# Altium integrated library Analog Devices Switches and Multiplexers Multiplexers (Muxes).IntLib: 481 symbols (part 4 of 23)
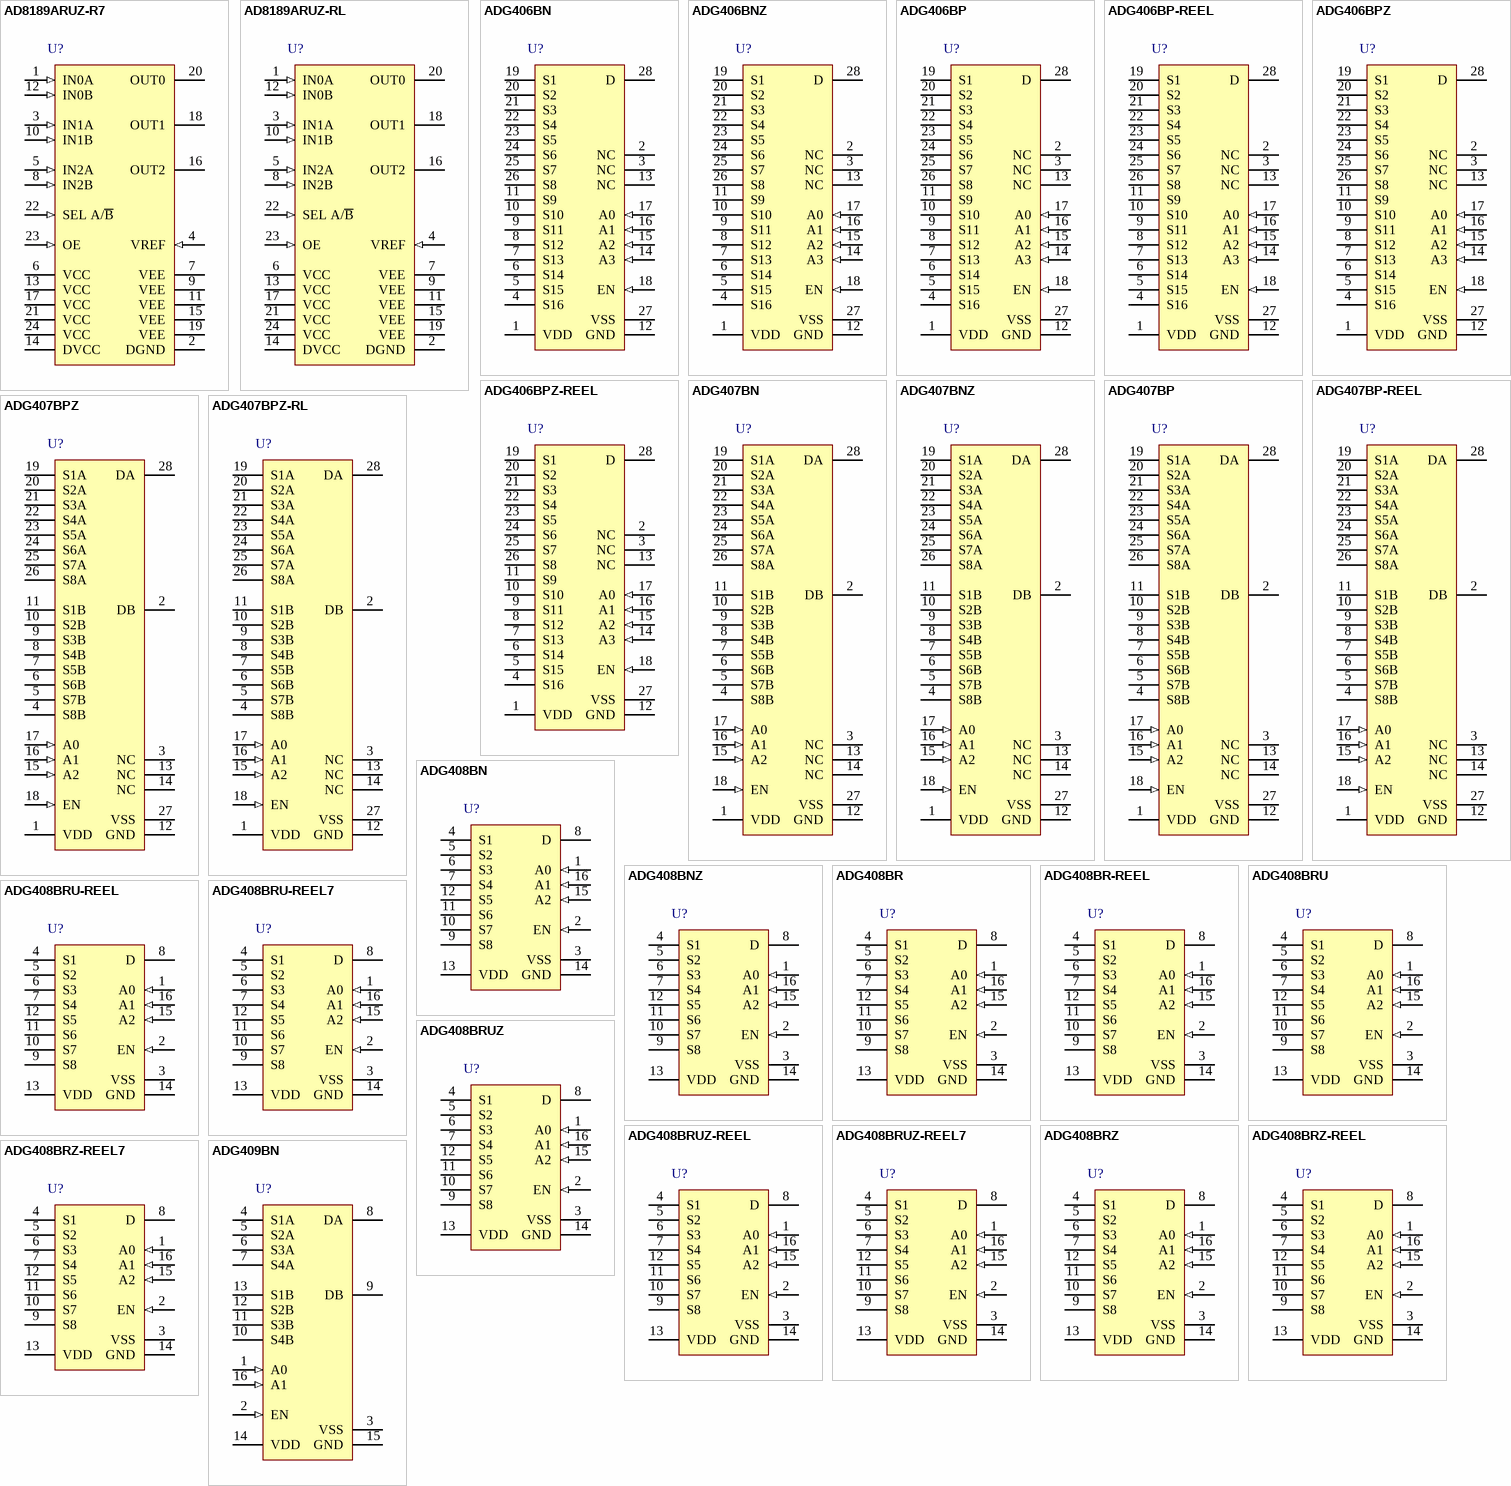
[diagram p20: symbols AD8189ARUZ-R7 to ADG409BN]

## ADG408BRU
designator U?
LC2MOS 8-Channel High Performance Analog Multiplexer, 40 Ohm / 90 Ohm Ron, 16-pin SOP (RU-16), Tube; Manufacturer: Analog Devices; PartNumber: ADG408BRU; Max Analog Signal Range: Vss to Vdd; Ron (ohms): 40; t transition (s): 120n; DatasheetVersion: Rev. C; PackageVersion: Nov-02; PackageReference: RU-16; PackageDescription: 16-Pin Thin Shrink Small Outline Package, Body 5 x 4.4 mm, Pitch 0.65 mm; Supplier 1: Digi-Key; Supplier Part Number 1: ADG408BRU-ND; Supplier 2: Mouser; Supplier Part Number 2: 584-ADG408BRU; Packing: Tube; Mounting Technology: Surface Mount; Code_JEDEC: MO-153AB; ComponentLink1Description: Manufacturer URL; ComponentLink1URL: http://www.analog.com/en/index.html; ComponentLink2Description: Datasheet; ComponentLink2URL: http://www.analog.com/static/imported-files/data_sheets/ADG408_409.pdf; ComponentLink3Description: Package Specification; ComponentLink3URL: http:/www.analog.com/static/imported-files/packages/36244347913743854010197452789RU16.pdf
footprint ADI-RU-16_N (SOP, 16-Leads, Body 5x4.4mm, Pitch 0.65mm, IPC Medium Density)
footprint ADI-RU-16_L (SOP, 16-Leads, Body 5x4.4mm, Pitch 0.65mm, IPC High Density)
footprint ADI-RU-16_M (SOP, 16-Leads, Body 5x4.4mm, Pitch 0.65mm, IPC Low Density)
pins: 1 A0 (in) "Logic Control Input.", 2 EN (in) "Active High Digital Input. When low, the device is disabled and all switches are off. When high, Ax logic inputs determine on switches.", 3 VSS (power) "Most Negative Power Supply Potential in Dual Supplies. In single-supply applications, it can be connected to ground.", 4 S1 "Source Terminal 1. Can be an input or  an output.", 5 S2 "Source Terminal 2. Can be an input or an output.", 6 S3 "Source Terminal 3. Can be an input or an output.", 7 S4 "Source Terminal 4. Can be an input or an output.", 8 D "Drain Terminal. Can be an input or an output.", 9 S8 "Source Terminal 8. Can be an input or an output.", 10 S7 "Source Terminal 7. Can be an input or an output.", 11 S6 "Source Terminal 6. Can be an input or an output.", 12 S5 "Source Terminal 5. Can be an input or an output.", 13 VDD (power) "Most Positive Power Supply Potential.", 14 GND (power) "Ground (0 V) Reference.", 15 A2 (in) "Logic Control Input.", 16 A1 (in) "Logic Control Input."

## ADG408BRU-REEL
designator U?
LC2MOS 8-Channel High Performance Analog Multiplexer, 40 Ohm / 90 Ohm Ron, 16-pin SOP (RU-16), Reel; Manufacturer: Analog Devices; PartNumber: ADG408BRU-REEL; Max Analog Signal Range: Vss to Vdd; Ron (ohms): 40; t transition (s): 120n; DatasheetVersion: Rev. C; PackageVersion: Nov-02; PackageReference: RU-16; PackageDescription: 16-Pin Thin Shrink Small Outline Package, Body 5 x 4.4 mm, Pitch 0.65 mm; Supplier 1: Digi-Key; Supplier Part Number 1: ADG408BRU-REEL-ND; Supplier 2: Newark; Supplier Part Number 2: 09B7011; Supplier 3: Mouser; Supplier Part Number 3: 584-ADG408BRU-R; Packing: Reel; Mounting Technology: Surface Mount; Code_JEDEC: MO-153AB; ComponentLink1Description: Manufacturer URL; ComponentLink1URL: http://www.analog.com/en/index.html; ComponentLink2Description: Datasheet; ComponentLink2URL: http://www.analog.com/static/imported-files/data_sheets/ADG408_409.pdf; ComponentLink3Description: Package Specification; ComponentLink3URL: http:/www.analog.com/static/imported-files/packages/36244347913743854010197452789RU16.pdf
footprint ADI-RU-16_N (SOP, 16-Leads, Body 5x4.4mm, Pitch 0.65mm, IPC Medium Density)
footprint ADI-RU-16_L (SOP, 16-Leads, Body 5x4.4mm, Pitch 0.65mm, IPC High Density)
footprint ADI-RU-16_M (SOP, 16-Leads, Body 5x4.4mm, Pitch 0.65mm, IPC Low Density)
pins: 1 A0 (in) "Logic Control Input.", 2 EN (in) "Active High Digital Input. When low, the device is disabled and all switches are off. When high, Ax logic inputs determine on switches.", 3 VSS (power) "Most Negative Power Supply Potential in Dual Supplies. In single-supply applications, it can be connected to ground.", 4 S1 "Source Terminal 1. Can be an input or  an output.", 5 S2 "Source Terminal 2. Can be an input or an output.", 6 S3 "Source Terminal 3. Can be an input or an output.", 7 S4 "Source Terminal 4. Can be an input or an output.", 8 D "Drain Terminal. Can be an input or an output.", 9 S8 "Source Terminal 8. Can be an input or an output.", 10 S7 "Source Terminal 7. Can be an input or an output.", 11 S6 "Source Terminal 6. Can be an input or an output.", 12 S5 "Source Terminal 5. Can be an input or an output.", 13 VDD (power) "Most Positive Power Supply Potential.", 14 GND (power) "Ground (0 V) Reference.", 15 A2 (in) "Logic Control Input.", 16 A1 (in) "Logic Control Input."

## ADG408BRU-REEL7
designator U?
LC2MOS 8-Channel High Performance Analog Multiplexer, 40 Ohm / 90 Ohm Ron, 16-pin SOP (RU-16), Reel; Manufacturer: Analog Devices; PartNumber: ADG408BRU-REEL7; Max Analog Signal Range: Vss to Vdd; Ron (ohms): 40; t transition (s): 120n; DatasheetVersion: Rev. C; PackageVersion: Nov-02; PackageReference: RU-16; PackageDescription: 16-Pin Thin Shrink Small Outline Package, Body 5 x 4.4 mm, Pitch 0.65 mm; Supplier 1: Digi-Key; Supplier Part Number 1: ADG408BRU-REEL7-ND; Supplier 2: Mouser; Supplier Part Number 2: 584-ADG408BRU-R7; Packing: Reel; Mounting Technology: Surface Mount; Code_JEDEC: MO-153AB; ComponentLink1Description: Manufacturer URL; ComponentLink1URL: http://www.analog.com/en/index.html; ComponentLink2Description: Datasheet; ComponentLink2URL: http://www.analog.com/static/imported-files/data_sheets/ADG408_409.pdf; ComponentLink3Description: Package Specification; ComponentLink3URL: http:/www.analog.com/static/imported-files/packages/36244347913743854010197452789RU16.pdf
footprint ADI-RU-16_N (SOP, 16-Leads, Body 5x4.4mm, Pitch 0.65mm, IPC Medium Density)
footprint ADI-RU-16_L (SOP, 16-Leads, Body 5x4.4mm, Pitch 0.65mm, IPC High Density)
footprint ADI-RU-16_M (SOP, 16-Leads, Body 5x4.4mm, Pitch 0.65mm, IPC Low Density)
pins: 1 A0 (in) "Logic Control Input.", 2 EN (in) "Active High Digital Input. When low, the device is disabled and all switches are off. When high, Ax logic inputs determine on switches.", 3 VSS (power) "Most Negative Power Supply Potential in Dual Supplies. In single-supply applications, it can be connected to ground.", 4 S1 "Source Terminal 1. Can be an input or  an output.", 5 S2 "Source Terminal 2. Can be an input or an output.", 6 S3 "Source Terminal 3. Can be an input or an output.", 7 S4 "Source Terminal 4. Can be an input or an output.", 8 D "Drain Terminal. Can be an input or an output.", 9 S8 "Source Terminal 8. Can be an input or an output.", 10 S7 "Source Terminal 7. Can be an input or an output.", 11 S6 "Source Terminal 6. Can be an input or an output.", 12 S5 "Source Terminal 5. Can be an input or an output.", 13 VDD (power) "Most Positive Power Supply Potential.", 14 GND (power) "Ground (0 V) Reference.", 15 A2 (in) "Logic Control Input.", 16 A1 (in) "Logic Control Input."

## ADG408BRUZ
designator U?
LC2MOS 8-Channel High Performance Analog Multiplexer, 40 Ohm / 90 Ohm Ron, 16-pin SOP (RU-16), Tube; Manufacturer: Analog Devices; PartNumber: ADG408BRUZ; Max Analog Signal Range: Vss to Vdd; Ron (ohms): 40; t transition (s): 120n; DatasheetVersion: Rev. C; PackageVersion: Nov-02; PackageReference: RU-16; PackageDescription: 16-Pin Thin Shrink Small Outline Package, Body 5 x 4.4 mm, Pitch 0.65 mm; Supplier 1: Digi-Key; Supplier Part Number 1: ADG408BRUZ-ND; Supplier 2: Farnell; Supplier Part Number 2: 1661018; Supplier 3: Newark; Supplier Part Number 3: 19M8646; Supplier 4: Mouser; Supplier Part Number 4: 584-ADG408BRUZ; Packing: Tube; Mounting Technology: Surface Mount; Code_JEDEC: MO-153AB; ComponentLink1Description: Manufacturer URL; ComponentLink1URL: http://www.analog.com/en/index.html; ComponentLink2Description: Datasheet; ComponentLink2URL: http://www.analog.com/static/imported-files/data_sheets/ADG408_409.pdf; ComponentLink3Description: Package Specification; ComponentLink3URL: http:/www.analog.com/static/imported-files/packages/36244347913743854010197452789RU16.pdf
footprint ADI-RU-16_N (SOP, 16-Leads, Body 5x4.4mm, Pitch 0.65mm, IPC Medium Density)
footprint ADI-RU-16_L (SOP, 16-Leads, Body 5x4.4mm, Pitch 0.65mm, IPC High Density)
footprint ADI-RU-16_M (SOP, 16-Leads, Body 5x4.4mm, Pitch 0.65mm, IPC Low Density)
pins: 1 A0 (in) "Logic Control Input.", 2 EN (in) "Active High Digital Input. When low, the device is disabled and all switches are off. When high, Ax logic inputs determine on switches.", 3 VSS (power) "Most Negative Power Supply Potential in Dual Supplies. In single-supply applications, it can be connected to ground.", 4 S1 "Source Terminal 1. Can be an input or  an output.", 5 S2 "Source Terminal 2. Can be an input or an output.", 6 S3 "Source Terminal 3. Can be an input or an output.", 7 S4 "Source Terminal 4. Can be an input or an output.", 8 D "Drain Terminal. Can be an input or an output.", 9 S8 "Source Terminal 8. Can be an input or an output.", 10 S7 "Source Terminal 7. Can be an input or an output.", 11 S6 "Source Terminal 6. Can be an input or an output.", 12 S5 "Source Terminal 5. Can be an input or an output.", 13 VDD (power) "Most Positive Power Supply Potential.", 14 GND (power) "Ground (0 V) Reference.", 15 A2 (in) "Logic Control Input.", 16 A1 (in) "Logic Control Input."

## ADG408BRUZ-REEL
designator U?
LC2MOS 8-Channel High Performance Analog Multiplexer, 40 Ohm / 90 Ohm Ron, 16-pin SOP (RU-16), Reel; Manufacturer: Analog Devices; PartNumber: ADG408BRUZ-REEL; Max Analog Signal Range: Vss to Vdd; Ron (ohms): 40; t transition (s): 120n; DatasheetVersion: Rev. C; PackageVersion: Nov-02; PackageReference: RU-16; PackageDescription: 16-Pin Thin Shrink Small Outline Package, Body 5 x 4.4 mm, Pitch 0.65 mm; Supplier 1: Digi-Key; Supplier Part Number 1: ADG408BRUZ-REEL-ND; Supplier 2: Newark; Supplier Part Number 2: 59K1232; Supplier 3: Mouser; Supplier Part Number 3: 584-ADG408BRUZ-R; Packing: Reel; Mounting Technology: Surface Mount; Code_JEDEC: MO-153AB; ComponentLink1Description: Manufacturer URL; ComponentLink1URL: http://www.analog.com/en/index.html; ComponentLink2Description: Datasheet; ComponentLink2URL: http://www.analog.com/static/imported-files/data_sheets/ADG408_409.pdf; ComponentLink3Description: Package Specification; ComponentLink3URL: http:/www.analog.com/static/imported-files/packages/36244347913743854010197452789RU16.pdf
footprint ADI-RU-16_N (SOP, 16-Leads, Body 5x4.4mm, Pitch 0.65mm, IPC Medium Density)
footprint ADI-RU-16_L (SOP, 16-Leads, Body 5x4.4mm, Pitch 0.65mm, IPC High Density)
footprint ADI-RU-16_M (SOP, 16-Leads, Body 5x4.4mm, Pitch 0.65mm, IPC Low Density)
pins: 1 A0 (in) "Logic Control Input.", 2 EN (in) "Active High Digital Input. When low, the device is disabled and all switches are off. When high, Ax logic inputs determine on switches.", 3 VSS (power) "Most Negative Power Supply Potential in Dual Supplies. In single-supply applications, it can be connected to ground.", 4 S1 "Source Terminal 1. Can be an input or  an output.", 5 S2 "Source Terminal 2. Can be an input or an output.", 6 S3 "Source Terminal 3. Can be an input or an output.", 7 S4 "Source Terminal 4. Can be an input or an output.", 8 D "Drain Terminal. Can be an input or an output.", 9 S8 "Source Terminal 8. Can be an input or an output.", 10 S7 "Source Terminal 7. Can be an input or an output.", 11 S6 "Source Terminal 6. Can be an input or an output.", 12 S5 "Source Terminal 5. Can be an input or an output.", 13 VDD (power) "Most Positive Power Supply Potential.", 14 GND (power) "Ground (0 V) Reference.", 15 A2 (in) "Logic Control Input.", 16 A1 (in) "Logic Control Input."

## ADG408BRUZ-REEL7
designator U?
LC2MOS 8-Channel High Performance Analog Multiplexer, 40 Ohm / 90 Ohm Ron, 16-pin SOP (RU-16), Reel; Manufacturer: Analog Devices; PartNumber: ADG408BRUZ-REEL7; Max Analog Signal Range: Vss to Vdd; Ron (ohms): 40; t transition (s): 120n; DatasheetVersion: Rev. C; PackageVersion: Nov-02; PackageReference: RU-16; PackageDescription: 16-Pin Thin Shrink Small Outline Package, Body 5 x 4.4 mm, Pitch 0.65 mm; Supplier 1: Digi-Key; Supplier Part Number 1: ADG408BRUZ-REEL7TR-ND; Supplier 2: Digi-Key; Supplier Part Number 2: ADG408BRUZ-REEL7CT-ND; Supplier 3: Digi-Key; Supplier Part Number 3: ADG408BRUZ-REEL7DKR-ND; Supplier 4: Newark; Supplier Part Number 4: 59K1233; Supplier 5: Mouser; Supplier Part Number 5: 584-ADG408BRUZ-R7; Packing: Reel; Mounting Technology: Surface Mount; Code_JEDEC: MO-153AB; ComponentLink1Description: Manufacturer URL; ComponentLink1URL: http://www.analog.com/en/index.html; ComponentLink2Description: Datasheet; ComponentLink2URL: http://www.analog.com/static/imported-files/data_sheets/ADG408_409.pdf; ComponentLink3Description: Package Specification; ComponentLink3URL: http:/www.analog.com/static/imported-files/packages/36244347913743854010197452789RU16.pdf
footprint ADI-RU-16_N (SOP, 16-Leads, Body 5x4.4mm, Pitch 0.65mm, IPC Medium Density)
footprint ADI-RU-16_L (SOP, 16-Leads, Body 5x4.4mm, Pitch 0.65mm, IPC High Density)
footprint ADI-RU-16_M (SOP, 16-Leads, Body 5x4.4mm, Pitch 0.65mm, IPC Low Density)
pins: 1 A0 (in) "Logic Control Input.", 2 EN (in) "Active High Digital Input. When low, the device is disabled and all switches are off. When high, Ax logic inputs determine on switches.", 3 VSS (power) "Most Negative Power Supply Potential in Dual Supplies. In single-supply applications, it can be connected to ground.", 4 S1 "Source Terminal 1. Can be an input or  an output.", 5 S2 "Source Terminal 2. Can be an input or an output.", 6 S3 "Source Terminal 3. Can be an input or an output.", 7 S4 "Source Terminal 4. Can be an input or an output.", 8 D "Drain Terminal. Can be an input or an output.", 9 S8 "Source Terminal 8. Can be an input or an output.", 10 S7 "Source Terminal 7. Can be an input or an output.", 11 S6 "Source Terminal 6. Can be an input or an output.", 12 S5 "Source Terminal 5. Can be an input or an output.", 13 VDD (power) "Most Positive Power Supply Potential.", 14 GND (power) "Ground (0 V) Reference.", 15 A2 (in) "Logic Control Input.", 16 A1 (in) "Logic Control Input."

## ADG408BRZ
designator U?
LC2MOS 8-Channel High Performance Analog Multiplexer, 40 Ohm / 90 Ohm Ron, 16-pin SOIC (R-16), Tube; Manufacturer: Analog Devices; PartNumber: ADG408BRZ; Max Analog Signal Range: Vss to Vdd; Ron (ohms): 40; t transition (s): 120n; DatasheetVersion: Rev. C; PackageVersion: 060606-A, 06/2006; PackageReference: R-16; PackageDescription: 16-Pin Standard Small Outline Package, Body 9.9 x 3.9 mm, Pitch 1.27 mm; Supplier 1: Digi-Key; Supplier Part Number 1: ADG408BRZ-ND; Supplier 2: Farnell; Supplier Part Number 2: 1661019; Supplier 3: Newark; Supplier Part Number 3: 19M8647; Supplier 4: Mouser; Supplier Part Number 4: 584-ADG408BRZ; Packing: Tube; Mounting Technology: Surface Mount; Code_JEDEC: MS-012-AC; ComponentLink1Description: Manufacturer URL; ComponentLink1URL: http://www.analog.com/en/index.html; ComponentLink2Description: Datasheet; ComponentLink2URL: http://www.analog.com/static/imported-files/data_sheets/ADG408_409.pdf; ComponentLink3Description: Package Specification; ComponentLink3URL: http://www.analog.com/static/imported-files/packages/PKG_PDF/SOIC_Narrow%20(R)/R_16.pdf
footprint ADI-R-16_N (SOIC, 16-Leads, Body 9.9x3.9mm, Pitch 1.27mm, IPC Medium Density)
footprint ADI-R-16_L (SOIC, 16-Leads, Body 9.9x3.9mm, Pitch 1.27mm, IPC High Density)
footprint ADI-R-16_M (SOIC, 16-Leads, Body 9.9x3.9mm, Pitch 1.27mm, IPC Low Density)
pins: 1 A0 (in) "Logic Control Input.", 2 EN (in) "Active High Digital Input.", 3 VSS (power) "Most Negative Power Supply Potential in Dual Supplies. In single-supply applications, it can be connected to ground.", 4 S1 "Source Terminal 1. Can be an input or  an output.", 5 S2 "Source Terminal 2. Can be an input or  an output.", 6 S3 "Source Terminal 3. Can be an input or  an output.", 7 S4 "Source Terminal 4. Can be an input or  an output.", 8 D "Drain Terminal . Can be an input or  an output.", 9 S8 "Source Terminal 8. Can be an input or  an output.", 10 S7 "Source Terminal 7. Can be an input or  an output.", 11 S6 "Source Terminal 6. Can be an input or  an output.", 12 S5 "Source Terminal 5. Can be an input or  an output.", 13 VDD (power) "Most Positive Power Supply Potential.", 14 GND (power) "Ground (0 V) Reference.", 15 A2 (in) "Logic Control Input.", 16 A1 (in) "Logic Control Input."

## ADG408BRZ-REEL
designator U?
LC2MOS 8-Channel High Performance Analog Multiplexer, 40 Ohm / 90 Ohm Ron, 16-pin SOIC (R-16), Reel; Manufacturer: Analog Devices; PartNumber: ADG408BRZ-REEL; Max Analog Signal Range: Vss to Vdd; Ron (ohms): 40; t transition (s): 120n; DatasheetVersion: Rev. C; PackageVersion: 060606-A, 06/2006; PackageReference: R-16; PackageDescription: 16-Pin Standard Small Outline Package, Body 9.9 x 3.9 mm, Pitch 1.27 mm; Supplier 1: Digi-Key; Supplier Part Number 1: ADG408BRZ-REELTR-ND; Supplier 2: Digi-Key; Supplier Part Number 2: ADG408BRZ-REELCT-ND; Supplier 3: Digi-Key; Supplier Part Number 3: ADG408BRZ-REELDKR-ND; Supplier 4: Newark; Supplier Part Number 4: 59K1235; Supplier 5: Mouser; Supplier Part Number 5: 584-ADG408BRZ-R; Packing: Reel; Mounting Technology: Surface Mount; Code_JEDEC: MS-012-AC; ComponentLink1Description: Manufacturer URL; ComponentLink1URL: http://www.analog.com/en/index.html; ComponentLink2Description: Datasheet; ComponentLink2URL: http://www.analog.com/static/imported-files/data_sheets/ADG408_409.pdf; ComponentLink3Description: Package Specification; ComponentLink3URL: http://www.analog.com/static/imported-files/packages/PKG_PDF/SOIC_Narrow%20(R)/R_16.pdf
footprint ADI-R-16_N (SOIC, 16-Leads, Body 9.9x3.9mm, Pitch 1.27mm, IPC Medium Density)
footprint ADI-R-16_L (SOIC, 16-Leads, Body 9.9x3.9mm, Pitch 1.27mm, IPC High Density)
footprint ADI-R-16_M (SOIC, 16-Leads, Body 9.9x3.9mm, Pitch 1.27mm, IPC Low Density)
pins: 1 A0 (in) "Logic Control Input.", 2 EN (in) "Active High Digital Input.", 3 VSS (power) "Most Negative Power Supply Potential in Dual Supplies. In single-supply applications, it can be connected to ground.", 4 S1 "Source Terminal 1. Can be an input or  an output.", 5 S2 "Source Terminal 2. Can be an input or  an output.", 6 S3 "Source Terminal 3. Can be an input or  an output.", 7 S4 "Source Terminal 4. Can be an input or  an output.", 8 D "Drain Terminal . Can be an input or  an output.", 9 S8 "Source Terminal 8. Can be an input or  an output.", 10 S7 "Source Terminal 7. Can be an input or  an output.", 11 S6 "Source Terminal 6. Can be an input or  an output.", 12 S5 "Source Terminal 5. Can be an input or  an output.", 13 VDD (power) "Most Positive Power Supply Potential.", 14 GND (power) "Ground (0 V) Reference.", 15 A2 (in) "Logic Control Input.", 16 A1 (in) "Logic Control Input."

## ADG408BRZ-REEL7
designator U?
LC2MOS 8-Channel High Performance Analog Multiplexer, 40 Ohm / 90 Ohm Ron, 16-pin SOIC (R-16), Reel; Manufacturer: Analog Devices; PartNumber: ADG408BRZ-REEL7; Max Analog Signal Range: Vss to Vdd; Ron (ohms): 40; t transition (s): 120n; DatasheetVersion: Rev. C; PackageVersion: 060606-A, 06/2006; PackageReference: R-16; PackageDescription: 16-Pin Standard Small Outline Package, Body 9.9 x 3.9 mm, Pitch 1.27 mm; Supplier 1: Digi-Key; Supplier Part Number 1: ADG408BRZ-REEL7TR-ND; Supplier 2: Digi-Key; Supplier Part Number 2: ADG408BRZ-REEL7CT-ND; Supplier 3: Digi-Key; Supplier Part Number 3: ADG408BRZ-REEL7DKR-ND; Supplier 4: Newark; Supplier Part Number 4: 19P8193; Supplier 5: Mouser; Supplier Part Number 5: 584-ADG408BRZ-R7; Packing: Reel; Mounting Technology: Surface Mount; Code_JEDEC: MS-012-AC; ComponentLink1Description: Manufacturer URL; ComponentLink1URL: http://www.analog.com/en/index.html; ComponentLink2Description: Datasheet; ComponentLink2URL: http://www.analog.com/static/imported-files/data_sheets/ADG408_409.pdf; ComponentLink3Description: Package Specification; ComponentLink3URL: http://www.analog.com/static/imported-files/packages/PKG_PDF/SOIC_Narrow%20(R)/R_16.pdf
footprint ADI-R-16_N (SOIC, 16-Leads, Body 9.9x3.9mm, Pitch 1.27mm, IPC Medium Density)
footprint ADI-R-16_L (SOIC, 16-Leads, Body 9.9x3.9mm, Pitch 1.27mm, IPC High Density)
footprint ADI-R-16_M (SOIC, 16-Leads, Body 9.9x3.9mm, Pitch 1.27mm, IPC Low Density)
pins: 1 A0 (in) "Logic Control Input.", 2 EN (in) "Active High Digital Input.", 3 VSS (power) "Most Negative Power Supply Potential in Dual Supplies. In single-supply applications, it can be connected to ground.", 4 S1 "Source Terminal 1. Can be an input or  an output.", 5 S2 "Source Terminal 2. Can be an input or  an output.", 6 S3 "Source Terminal 3. Can be an input or  an output.", 7 S4 "Source Terminal 4. Can be an input or  an output.", 8 D "Drain Terminal . Can be an input or  an output.", 9 S8 "Source Terminal 8. Can be an input or  an output.", 10 S7 "Source Terminal 7. Can be an input or  an output.", 11 S6 "Source Terminal 6. Can be an input or  an output.", 12 S5 "Source Terminal 5. Can be an input or  an output.", 13 VDD (power) "Most Positive Power Supply Potential.", 14 GND (power) "Ground (0 V) Reference.", 15 A2 (in) "Logic Control Input.", 16 A1 (in) "Logic Control Input."

## ADG409BN
designator U?
LC2MOS 4-Channel High Performance Analog Multiplexer, 40 Ohm / 90 Ohm Ron, 16-pin DIP (N-16), Tube; Manufacturer: Analog Devices; PartNumber: ADG409BN; Max Analog Signal Range: Vss to Vdd; Ron (ohms): 40; t transition (s): 120n; DatasheetVersion: Rev. C; PackageVersion: 070706-A, 07/2006; PackageReference: N-16; PackageDescription: 16-Pin Plastic Dual In-Line Package, Row spacing 7.62 mm, Pitch 2.54 mm; Supplier 1: Digi-Key; Supplier Part Number 1: ADG409BN-ND; Packing: Tube; Mounting Technology: Through Hole; Code_JEDEC: MS-001; ComponentLink1Description: Manufacturer URL; ComponentLink1URL: http://www.analog.com/en/index.html; ComponentLink2Description: Datasheet; ComponentLink2URL: http://www.analog.com/static/imported-files/data_sheets/ADG408_409.pdf; ComponentLink3Description: Package Specification; ComponentLink3URL: http://www.analog.com/static/imported-files/packages/44768431550332N_16.pdf
footprint ADI-N-16 (DIP, 16-Leads, Body 20.07x6.6mm, Pitch 2.54mm)
pins: 1 A0 (in) "Logic Control Input.", 2 EN (in) "Active High Digital Input. When low, the device is disabled and all switches are off. When high, Ax logic inputs determine on switches.", 3 VSS (power) "Most Negative Power Supply Potential in Dual Supplies. In single-supply applications, it can be connected to ground.", 4 S1A "Source Terminal 1A. Can be an input or an output.", 5 S2A "Source Terminal 2A. Can be an input or an output.", 6 S3A "Source Terminal 3A. Can be an input or an output.", 7 S4A "Source Terminal 4A. Can be an input or an output.", 8 DA "Drain Terminal A. Can be an input or an output.", 9 DB "Drain Terminal B. Can be an input or an output.", 10 S4B "Source Terminal 4B. Can be an input or an output.", 11 S3B "Source Terminal 3B. Can be an input or an output.", 12 S2B "Source Terminal 2B. Can be an input or an output.", 13 S1B "Source Terminal 1B. Can be an input or an output.", 14 VDD (power) "Most Positive Power Supply Potential.", 15 GND (power) "Ground (0 V) Reference.", 16 A1 (in) "Logic Control Input."

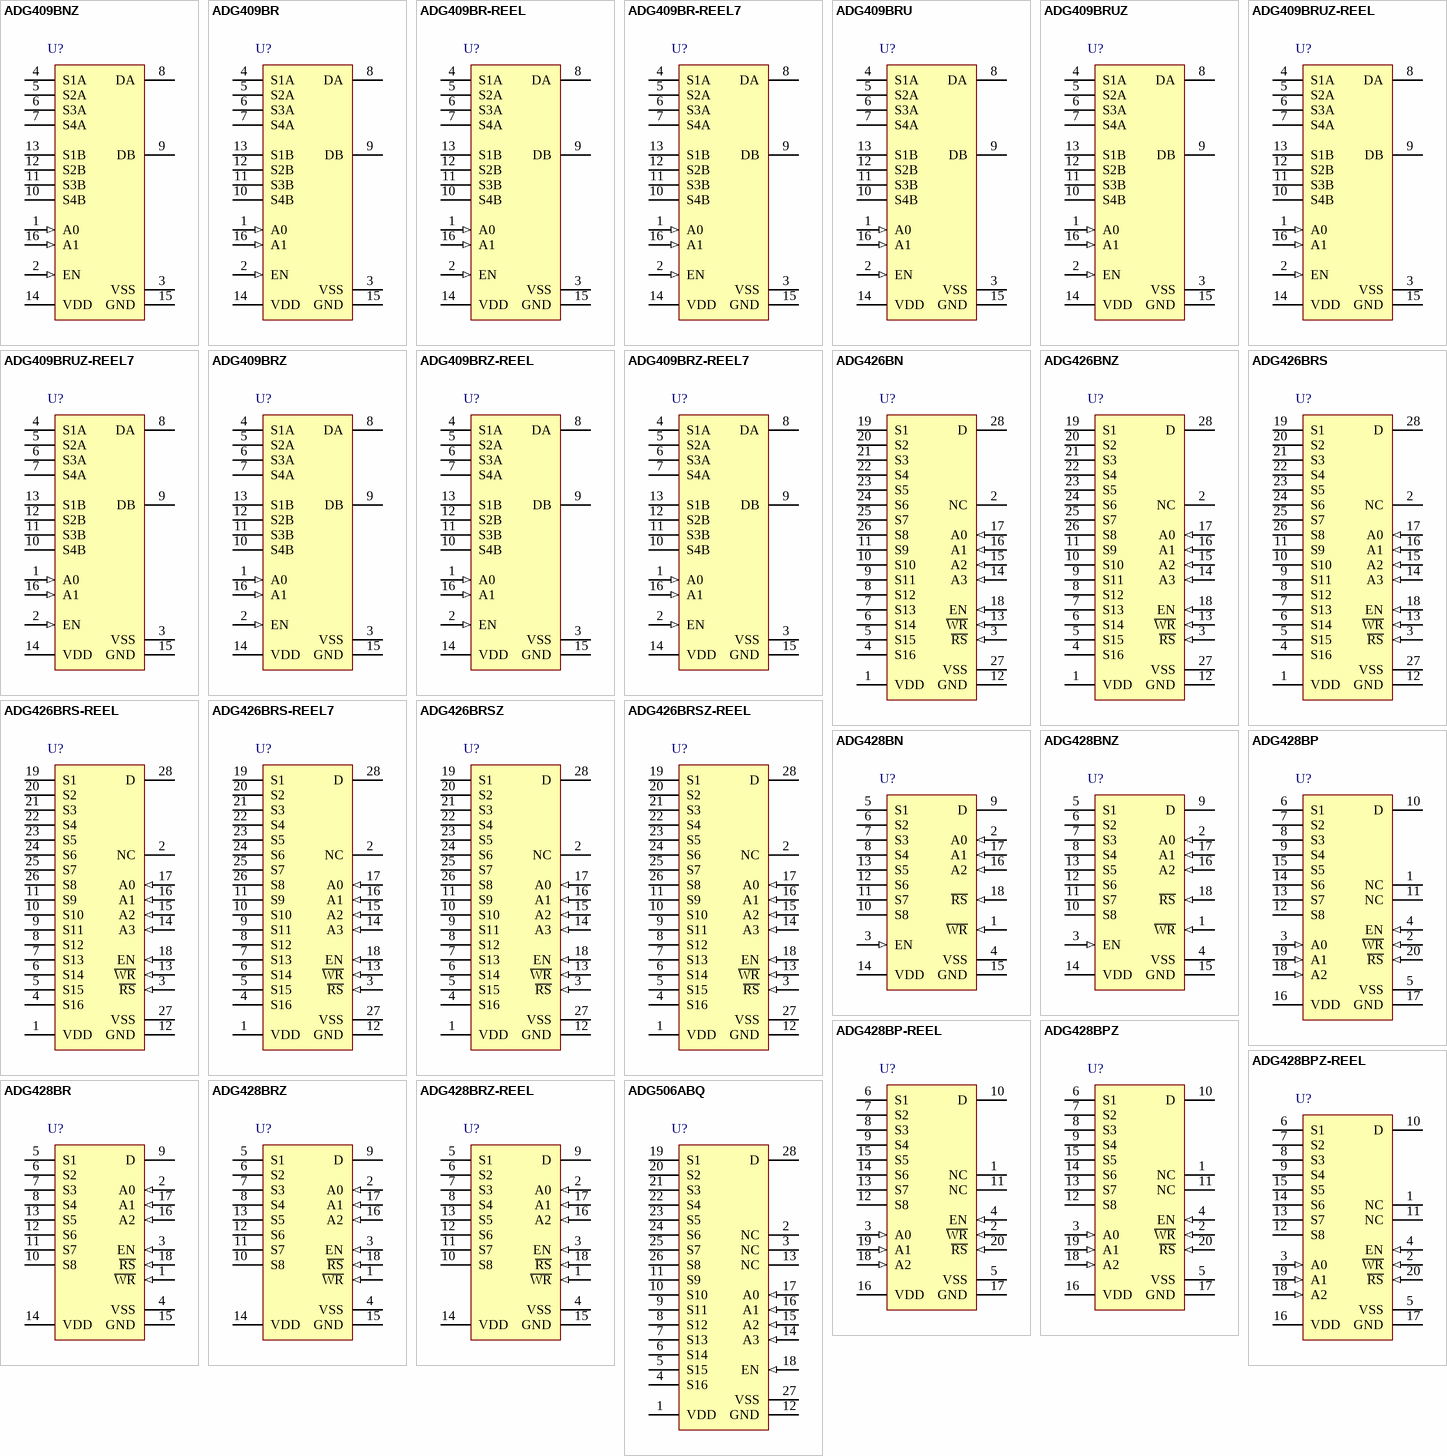
[diagram p3: symbols ADG409BNZ to ADG506ABQ]

## ADG409BNZ
designator U?
LC2MOS 4-Channel High Performance Analog Multiplexer, 40 Ohm / 90 Ohm Ron, 16-pin DIP (N-16), Tube; Manufacturer: Analog Devices; PartNumber: ADG409BNZ; Max Analog Signal Range: Vss to Vdd; Ron (ohms): 40; t transition (s): 120n; DatasheetVersion: Rev. C; PackageVersion: 070706-A, 07/2006; PackageReference: N-16; PackageDescription: 16-Pin Plastic Dual In-Line Package, Row spacing 7.62 mm, Pitch 2.54 mm; Supplier 1: Digi-Key; Supplier Part Number 1: ADG409BNZ-ND; Supplier 2: Farnell; Supplier Part Number 2: 1438746; Supplier 3: Newark; Supplier Part Number 3: 59K1236; Supplier 4: Mouser; Supplier Part Number 4: 584-ADG409BNZ; Packing: Tube; Mounting Technology: Through Hole; Code_JEDEC: MS-001; ComponentLink1Description: Manufacturer URL; ComponentLink1URL: http://www.analog.com/en/index.html; ComponentLink2Description: Datasheet; ComponentLink2URL: http://www.analog.com/static/imported-files/data_sheets/ADG408_409.pdf; ComponentLink3Description: Package Specification; ComponentLink3URL: http://www.analog.com/static/imported-files/packages/44768431550332N_16.pdf
footprint ADI-N-16 (DIP, 16-Leads, Body 20.07x6.6mm, Pitch 2.54mm)
pins: 1 A0 (in) "Logic Control Input.", 2 EN (in) "Active High Digital Input. When low, the device is disabled and all switches are off. When high, Ax logic inputs determine on switches.", 3 VSS (power) "Most Negative Power Supply Potential in Dual Supplies. In single-supply applications, it can be connected to ground.", 4 S1A "Source Terminal 1A. Can be an input or an output.", 5 S2A "Source Terminal 2A. Can be an input or an output.", 6 S3A "Source Terminal 3A. Can be an input or an output.", 7 S4A "Source Terminal 4A. Can be an input or an output.", 8 DA "Drain Terminal A. Can be an input or an output.", 9 DB "Drain Terminal B. Can be an input or an output.", 10 S4B "Source Terminal 4B. Can be an input or an output.", 11 S3B "Source Terminal 3B. Can be an input or an output.", 12 S2B "Source Terminal 2B. Can be an input or an output.", 13 S1B "Source Terminal 1B. Can be an input or an output.", 14 VDD (power) "Most Positive Power Supply Potential.", 15 GND (power) "Ground (0 V) Reference.", 16 A1 (in) "Logic Control Input."

## ADG409BR
designator U?
LC2MOS 4-Channel High Performance Analog Multiplexer, 40 Ohm / 90 Ohm Ron, 16-pin SOIC (R-16), Tube; Manufacturer: Analog Devices; PartNumber: ADG409BR; Max Analog Signal Range: Vss to Vdd; Ron (ohms): 40; t transition (s): 120n; DatasheetVersion: Rev. C; PackageVersion: 060606-A, 06/2006; PackageReference: R-16; PackageDescription: 16-Pin Standard Small Outline Package, Body 9.9 x 3.9 mm, Pitch 1.27 mm; Supplier 1: Digi-Key; Supplier Part Number 1: ADG409BR-ND; Supplier 2: Mouser; Supplier Part Number 2: 584-ADG409BR; Packing: Tube; Mounting Technology: Surface Mount; Code_JEDEC: MS-012-AC; ComponentLink1Description: Manufacturer URL; ComponentLink1URL: http://www.analog.com/en/index.html; ComponentLink2Description: Datasheet; ComponentLink2URL: http://www.analog.com/static/imported-files/data_sheets/ADG408_409.pdf; ComponentLink3Description: Package Specification; ComponentLink3URL: http://www.analog.com/static/imported-files/packages/PKG_PDF/SOIC_Narrow%20(R)/R_16.pdf
footprint ADI-R-16_N (SOIC, 16-Leads, Body 9.9x3.9mm, Pitch 1.27mm, IPC Medium Density)
footprint ADI-R-16_L (SOIC, 16-Leads, Body 9.9x3.9mm, Pitch 1.27mm, IPC High Density)
footprint ADI-R-16_M (SOIC, 16-Leads, Body 9.9x3.9mm, Pitch 1.27mm, IPC Low Density)
pins: 1 A0 (in) "Logic Control Input.", 2 EN (in) "Active High Digital Input. When low, the device is disabled and all switches are off. When high, Ax logic inputs determine on switches.", 3 VSS (power) "Most Negative Power Supply Potential in Dual Supplies. In single-supply applications, it can be connected to ground.", 4 S1A "Source Terminal 1A. Can be an input or an output.", 5 S2A "Source Terminal 2A. Can be an input or an output.", 6 S3A "Source Terminal 3A. Can be an input or an output.", 7 S4A "Source Terminal 4A. Can be an input or an output.", 8 DA "Drain Terminal A. Can be an input or an output.", 9 DB "Drain Terminal B. Can be an input or an output.", 10 S4B "Source Terminal 4B. Can be an input or an output.", 11 S3B "Source Terminal 3B. Can be an input or an output.", 12 S2B "Source Terminal 2B. Can be an input or an output.", 13 S1B "Source Terminal 1B. Can be an input or an output.", 14 VDD (power) "Most Positive Power Supply Potential.", 15 GND (power) "Ground (0 V) Reference.", 16 A1 (in) "Logic Control Input."

## ADG409BR-REEL
designator U?
LC2MOS 4-Channel High Performance Analog Multiplexer, 40 Ohm / 90 Ohm Ron, 16-pin SOIC (R-16), Reel; Manufacturer: Analog Devices; PartNumber: ADG409BR-REEL; Max Analog Signal Range: Vss to Vdd; Ron (ohms): 40; t transition (s): 120n; DatasheetVersion: Rev. C; PackageVersion: 060606-A, 06/2006; PackageReference: R-16; PackageDescription: 16-Pin Standard Small Outline Package, Body 9.9 x 3.9 mm, Pitch 1.27 mm; Supplier 1: Digi-Key; Supplier Part Number 1: ADG409BR-REEL-ND; Supplier 2: Newark; Supplier Part Number 2: 09B7014; Supplier 3: Mouser; Supplier Part Number 3: 584-ADG409BR-R; Packing: Reel; Mounting Technology: Surface Mount; Code_JEDEC: MS-012-AC; ComponentLink1Description: Manufacturer URL; ComponentLink1URL: http://www.analog.com/en/index.html; ComponentLink2Description: Datasheet; ComponentLink2URL: http://www.analog.com/static/imported-files/data_sheets/ADG408_409.pdf; ComponentLink3Description: Package Specification; ComponentLink3URL: http://www.analog.com/static/imported-files/packages/PKG_PDF/SOIC_Narrow%20(R)/R_16.pdf
footprint ADI-R-16_N (SOIC, 16-Leads, Body 9.9x3.9mm, Pitch 1.27mm, IPC Medium Density)
footprint ADI-R-16_L (SOIC, 16-Leads, Body 9.9x3.9mm, Pitch 1.27mm, IPC High Density)
footprint ADI-R-16_M (SOIC, 16-Leads, Body 9.9x3.9mm, Pitch 1.27mm, IPC Low Density)
pins: 1 A0 (in) "Logic Control Input.", 2 EN (in) "Active High Digital Input. When low, the device is disabled and all switches are off. When high, Ax logic inputs determine on switches.", 3 VSS (power) "Most Negative Power Supply Potential in Dual Supplies. In single-supply applications, it can be connected to ground.", 4 S1A "Source Terminal 1A. Can be an input or an output.", 5 S2A "Source Terminal 2A. Can be an input or an output.", 6 S3A "Source Terminal 3A. Can be an input or an output.", 7 S4A "Source Terminal 4A. Can be an input or an output.", 8 DA "Drain Terminal A. Can be an input or an output.", 9 DB "Drain Terminal B. Can be an input or an output.", 10 S4B "Source Terminal 4B. Can be an input or an output.", 11 S3B "Source Terminal 3B. Can be an input or an output.", 12 S2B "Source Terminal 2B. Can be an input or an output.", 13 S1B "Source Terminal 1B. Can be an input or an output.", 14 VDD (power) "Most Positive Power Supply Potential.", 15 GND (power) "Ground (0 V) Reference.", 16 A1 (in) "Logic Control Input."

## ADG409BR-REEL7
designator U?
LC2MOS 4-Channel High Performance Analog Multiplexer, 40 Ohm / 90 Ohm Ron, 16-pin SOIC (R-16), Reel; Manufacturer: Analog Devices; PartNumber: ADG409BR-REEL7; Max Analog Signal Range: Vss to Vdd; Ron (ohms): 40; t transition (s): 120n; DatasheetVersion: Rev. C; PackageVersion: 060606-A, 06/2006; PackageReference: R-16; PackageDescription: 16-Pin Standard Small Outline Package, Body 9.9 x 3.9 mm, Pitch 1.27 mm; Supplier 1: Digi-Key; Supplier Part Number 1: ADG409BR-REEL7-ND; Supplier 2: Newark; Supplier Part Number 2: 09B7015; Supplier 3: Mouser; Supplier Part Number 3: 584-ADG409BR-R7; Packing: Reel; Mounting Technology: Surface Mount; Code_JEDEC: MS-012-AC; ComponentLink1Description: Manufacturer URL; ComponentLink1URL: http://www.analog.com/en/index.html; ComponentLink2Description: Datasheet; ComponentLink2URL: http://www.analog.com/static/imported-files/data_sheets/ADG408_409.pdf; ComponentLink3Description: Package Specification; ComponentLink3URL: http://www.analog.com/static/imported-files/packages/PKG_PDF/SOIC_Narrow%20(R)/R_16.pdf
footprint ADI-R-16_N (SOIC, 16-Leads, Body 9.9x3.9mm, Pitch 1.27mm, IPC Medium Density)
footprint ADI-R-16_L (SOIC, 16-Leads, Body 9.9x3.9mm, Pitch 1.27mm, IPC High Density)
footprint ADI-R-16_M (SOIC, 16-Leads, Body 9.9x3.9mm, Pitch 1.27mm, IPC Low Density)
pins: 1 A0 (in) "Logic Control Input.", 2 EN (in) "Active High Digital Input. When low, the device is disabled and all switches are off. When high, Ax logic inputs determine on switches.", 3 VSS (power) "Most Negative Power Supply Potential in Dual Supplies. In single-supply applications, it can be connected to ground.", 4 S1A "Source Terminal 1A. Can be an input or an output.", 5 S2A "Source Terminal 2A. Can be an input or an output.", 6 S3A "Source Terminal 3A. Can be an input or an output.", 7 S4A "Source Terminal 4A. Can be an input or an output.", 8 DA "Drain Terminal A. Can be an input or an output.", 9 DB "Drain Terminal B. Can be an input or an output.", 10 S4B "Source Terminal 4B. Can be an input or an output.", 11 S3B "Source Terminal 3B. Can be an input or an output.", 12 S2B "Source Terminal 2B. Can be an input or an output.", 13 S1B "Source Terminal 1B. Can be an input or an output.", 14 VDD (power) "Most Positive Power Supply Potential.", 15 GND (power) "Ground (0 V) Reference.", 16 A1 (in) "Logic Control Input."

## ADG409BRU
designator U?
LC2MOS 4-Channel High Performance Analog Multiplexer, 40 Ohm / 90 Ohm Ron, 16-pin SOP (RU-16), Tube; Manufacturer: Analog Devices; PartNumber: ADG409BRU; Max Analog Signal Range: Vss to Vdd; Ron (ohms): 40; t transition (s): 120n; DatasheetVersion: Rev. C; PackageVersion: Nov-02; PackageReference: RU-16; PackageDescription: 16-Pin Thin Shrink Small Outline Package, Body 5 x 4.4 mm, Pitch 0.65 mm; Supplier 1: Digi-Key; Supplier Part Number 1: ADG409BRU-ND; Packing: Tube; Mounting Technology: Surface Mount; Code_JEDEC: MO-153AB; ComponentLink1Description: Manufacturer URL; ComponentLink1URL: http://www.analog.com/en/index.html; ComponentLink2Description: Datasheet; ComponentLink2URL: http://www.analog.com/static/imported-files/data_sheets/ADG408_409.pdf; ComponentLink3Description: Package Specification; ComponentLink3URL: http:/www.analog.com/static/imported-files/packages/36244347913743854010197452789RU16.pdf
footprint ADI-RU-16_N (SOP, 16-Leads, Body 5x4.4mm, Pitch 0.65mm, IPC Medium Density)
footprint ADI-RU-16_L (SOP, 16-Leads, Body 5x4.4mm, Pitch 0.65mm, IPC High Density)
footprint ADI-RU-16_M (SOP, 16-Leads, Body 5x4.4mm, Pitch 0.65mm, IPC Low Density)
pins: 1 A0 (in) "Logic Control Input.", 2 EN (in) "Active High Digital Input. When low, the device is disabled and all switches are off.When high, Ax logic inputs determine on switches.", 3 VSS (power) "Most Negative Power Supply Potential in Dual Supplies. In single-supply applications, it can be connected to ground.", 4 S1A "Source Terminal 1A. Can be an input or an output.", 5 S2A "Source Terminal 2A. Can be an input or an output.", 6 S3A "Source Terminal 3A. Can be an input or an output.", 7 S4A "Source Terminal 4A. Can be an input or an output.", 8 DA "Drain Terminal A. Can be an input or an output.", 9 DB "Drain Terminal B. Can be an input or an output.", 10 S4B "Source Terminal 4B. Can be an input or an output.", 11 S3B "Source Terminal 3B. Can be an input or an output.", 12 S2B "Source Terminal 2B. Can be an input or an output.", 13 S1B "Source Terminal 1B. Can be an input or an output.", 14 VDD (power) "Most Positive Power Supply Potential.", 15 GND (power) "Ground (0 V) Reference.", 16 A1 (in) "Logic Control Input."

## ADG409BRUZ
designator U?
LC2MOS 4-Channel High Performance Analog Multiplexer, 40 Ohm / 90 Ohm Ron, 16-pin SOP (RU-16), Tube; Manufacturer: Analog Devices; PartNumber: ADG409BRUZ; Max Analog Signal Range: Vss to Vdd; Ron (ohms): 40; t transition (s): 120n; DatasheetVersion: Rev. C; PackageVersion: Nov-02; PackageReference: RU-16; PackageDescription: 16-Pin Thin Shrink Small Outline Package, Body 5 x 4.4 mm, Pitch 0.65 mm; Supplier 1: Digi-Key; Supplier Part Number 1: ADG409BRUZ-ND; Supplier 2: Farnell; Supplier Part Number 2: 2305792; Supplier 3: Newark; Supplier Part Number 3: 59K1237; Supplier 4: Mouser; Supplier Part Number 4: 584-ADG409BRUZ; Packing: Tube; Mounting Technology: Surface Mount; Code_JEDEC: MO-153AB; ComponentLink1Description: Manufacturer URL; ComponentLink1URL: http://www.analog.com/en/index.html; ComponentLink2Description: Datasheet; ComponentLink2URL: http://www.analog.com/static/imported-files/data_sheets/ADG408_409.pdf; ComponentLink3Description: Package Specification; ComponentLink3URL: http:/www.analog.com/static/imported-files/packages/36244347913743854010197452789RU16.pdf
footprint ADI-RU-16_N (SOP, 16-Leads, Body 5x4.4mm, Pitch 0.65mm, IPC Medium Density)
footprint ADI-RU-16_L (SOP, 16-Leads, Body 5x4.4mm, Pitch 0.65mm, IPC High Density)
footprint ADI-RU-16_M (SOP, 16-Leads, Body 5x4.4mm, Pitch 0.65mm, IPC Low Density)
pins: 1 A0 (in) "Logic Control Input.", 2 EN (in) "Active High Digital Input. When low, the device is disabled and all switches are off.When high, Ax logic inputs determine on switches.", 3 VSS (power) "Most Negative Power Supply Potential in Dual Supplies. In single-supply applications, it can be connected to ground.", 4 S1A "Source Terminal 1A. Can be an input or an output.", 5 S2A "Source Terminal 2A. Can be an input or an output.", 6 S3A "Source Terminal 3A. Can be an input or an output.", 7 S4A "Source Terminal 4A. Can be an input or an output.", 8 DA "Drain Terminal A. Can be an input or an output.", 9 DB "Drain Terminal B. Can be an input or an output.", 10 S4B "Source Terminal 4B. Can be an input or an output.", 11 S3B "Source Terminal 3B. Can be an input or an output.", 12 S2B "Source Terminal 2B. Can be an input or an output.", 13 S1B "Source Terminal 1B. Can be an input or an output.", 14 VDD (power) "Most Positive Power Supply Potential.", 15 GND (power) "Ground (0 V) Reference.", 16 A1 (in) "Logic Control Input."

## ADG409BRUZ-REEL
designator U?
LC2MOS 4-Channel High Performance Analog Multiplexer, 40 Ohm / 90 Ohm Ron, 16-pin SOP (RU-16), Reel; Manufacturer: Analog Devices; PartNumber: ADG409BRUZ-REEL; Max Analog Signal Range: Vss to Vdd; Ron (ohms): 40; t transition (s): 120n; DatasheetVersion: Rev. C; PackageVersion: Nov-02; PackageReference: RU-16; PackageDescription: 16-Pin Thin Shrink Small Outline Package, Body 5 x 4.4 mm, Pitch 0.65 mm; Supplier 1: Digi-Key; Supplier Part Number 1: ADG409BRUZ-REEL-ND; Supplier 2: Mouser; Supplier Part Number 2: 584-ADG409BRUZ-R; Packing: Reel; Mounting Technology: Surface Mount; Code_JEDEC: MO-153AB; ComponentLink1Description: Manufacturer URL; ComponentLink1URL: http://www.analog.com/en/index.html; ComponentLink2Description: Datasheet; ComponentLink2URL: http://www.analog.com/static/imported-files/data_sheets/ADG408_409.pdf; ComponentLink3Description: Package Specification; ComponentLink3URL: http:/www.analog.com/static/imported-files/packages/36244347913743854010197452789RU16.pdf
footprint ADI-RU-16_N (SOP, 16-Leads, Body 5x4.4mm, Pitch 0.65mm, IPC Medium Density)
footprint ADI-RU-16_L (SOP, 16-Leads, Body 5x4.4mm, Pitch 0.65mm, IPC High Density)
footprint ADI-RU-16_M (SOP, 16-Leads, Body 5x4.4mm, Pitch 0.65mm, IPC Low Density)
pins: 1 A0 (in) "Logic Control Input.", 2 EN (in) "Active High Digital Input. When low, the device is disabled and all switches are off.When high, Ax logic inputs determine on switches.", 3 VSS (power) "Most Negative Power Supply Potential in Dual Supplies. In single-supply applications, it can be connected to ground.", 4 S1A "Source Terminal 1A. Can be an input or an output.", 5 S2A "Source Terminal 2A. Can be an input or an output.", 6 S3A "Source Terminal 3A. Can be an input or an output.", 7 S4A "Source Terminal 4A. Can be an input or an output.", 8 DA "Drain Terminal A. Can be an input or an output.", 9 DB "Drain Terminal B. Can be an input or an output.", 10 S4B "Source Terminal 4B. Can be an input or an output.", 11 S3B "Source Terminal 3B. Can be an input or an output.", 12 S2B "Source Terminal 2B. Can be an input or an output.", 13 S1B "Source Terminal 1B. Can be an input or an output.", 14 VDD (power) "Most Positive Power Supply Potential.", 15 GND (power) "Ground (0 V) Reference.", 16 A1 (in) "Logic Control Input."

## ADG409BRUZ-REEL7
designator U?
LC2MOS 4-Channel High Performance Analog Multiplexer, 40 Ohm / 90 Ohm Ron, 16-pin SOP (RU-16), Reel; Manufacturer: Analog Devices; PartNumber: ADG409BRUZ-REEL7; Max Analog Signal Range: Vss to Vdd; Ron (ohms): 40; t transition (s): 120n; DatasheetVersion: Rev. C; PackageVersion: Nov-02; PackageReference: RU-16; PackageDescription: 16-Pin Thin Shrink Small Outline Package, Body 5 x 4.4 mm, Pitch 0.65 mm; Supplier 1: Digi-Key; Supplier Part Number 1: ADG409BRUZ-REEL7-ND; Supplier 2: Mouser; Supplier Part Number 2: 584-ADG409BRUZ-R7; Packing: Reel; Mounting Technology: Surface Mount; Code_JEDEC: MO-153AB; ComponentLink1Description: Manufacturer URL; ComponentLink1URL: http://www.analog.com/en/index.html; ComponentLink2Description: Datasheet; ComponentLink2URL: http://www.analog.com/static/imported-files/data_sheets/ADG408_409.pdf; ComponentLink3Description: Package Specification; ComponentLink3URL: http:/www.analog.com/static/imported-files/packages/36244347913743854010197452789RU16.pdf
footprint ADI-RU-16_N (SOP, 16-Leads, Body 5x4.4mm, Pitch 0.65mm, IPC Medium Density)
footprint ADI-RU-16_L (SOP, 16-Leads, Body 5x4.4mm, Pitch 0.65mm, IPC High Density)
footprint ADI-RU-16_M (SOP, 16-Leads, Body 5x4.4mm, Pitch 0.65mm, IPC Low Density)
pins: 1 A0 (in) "Logic Control Input.", 2 EN (in) "Active High Digital Input. When low, the device is disabled and all switches are off.When high, Ax logic inputs determine on switches.", 3 VSS (power) "Most Negative Power Supply Potential in Dual Supplies. In single-supply applications, it can be connected to ground.", 4 S1A "Source Terminal 1A. Can be an input or an output.", 5 S2A "Source Terminal 2A. Can be an input or an output.", 6 S3A "Source Terminal 3A. Can be an input or an output.", 7 S4A "Source Terminal 4A. Can be an input or an output.", 8 DA "Drain Terminal A. Can be an input or an output.", 9 DB "Drain Terminal B. Can be an input or an output.", 10 S4B "Source Terminal 4B. Can be an input or an output.", 11 S3B "Source Terminal 3B. Can be an input or an output.", 12 S2B "Source Terminal 2B. Can be an input or an output.", 13 S1B "Source Terminal 1B. Can be an input or an output.", 14 VDD (power) "Most Positive Power Supply Potential.", 15 GND (power) "Ground (0 V) Reference.", 16 A1 (in) "Logic Control Input."

## ADG409BRZ
designator U?
LC2MOS 4-Channel High Performance Analog Multiplexer, 40 Ohm / 90 Ohm Ron, 16-pin SOIC (R-16), Tube; Manufacturer: Analog Devices; PartNumber: ADG409BRZ; Max Analog Signal Range: Vss to Vdd; Ron (ohms): 40; t transition (s): 120n; DatasheetVersion: Rev. C; PackageVersion: 060606-A, 06/2006; PackageReference: R-16; PackageDescription: 16-Pin Standard Small Outline Package, Body 9.9 x 3.9 mm, Pitch 1.27 mm; Supplier 1: Digi-Key; Supplier Part Number 1: ADG409BRZ-ND; Supplier 2: Farnell; Supplier Part Number 2: 1438942; Supplier 3: Newark; Supplier Part Number 3: 19M8648; Supplier 4: Mouser; Supplier Part Number 4: 584-ADG409BRZ; Packing: Tube; Mounting Technology: Surface Mount; Code_JEDEC: MS-012-AC; ComponentLink1Description: Manufacturer URL; ComponentLink1URL: http://www.analog.com/en/index.html; ComponentLink2Description: Datasheet; ComponentLink2URL: http://www.analog.com/static/imported-files/data_sheets/ADG408_409.pdf; ComponentLink3Description: Package Specification; ComponentLink3URL: http://www.analog.com/static/imported-files/packages/PKG_PDF/SOIC_Narrow%20(R)/R_16.pdf
footprint ADI-R-16_N (SOIC, 16-Leads, Body 9.9x3.9mm, Pitch 1.27mm, IPC Medium Density)
footprint ADI-R-16_L (SOIC, 16-Leads, Body 9.9x3.9mm, Pitch 1.27mm, IPC High Density)
footprint ADI-R-16_M (SOIC, 16-Leads, Body 9.9x3.9mm, Pitch 1.27mm, IPC Low Density)
pins: 1 A0 (in) "Logic Control Input.", 2 EN (in) "Active High Digital Input. When low, the device is disabled and all switches are off. When high, Ax logic inputs determine on switches.", 3 VSS (power) "Most Negative Power Supply Potential in Dual Supplies. In single-supply applications, it can be connected to ground.", 4 S1A "Source Terminal 1A. Can be an input or an output.", 5 S2A "Source Terminal 2A. Can be an input or an output.", 6 S3A "Source Terminal 3A. Can be an input or an output.", 7 S4A "Source Terminal 4A. Can be an input or an output.", 8 DA "Drain Terminal A. Can be an input or an output.", 9 DB "Drain Terminal B. Can be an input or an output.", 10 S4B "Source Terminal 4B. Can be an input or an output.", 11 S3B "Source Terminal 3B. Can be an input or an output.", 12 S2B "Source Terminal 2B. Can be an input or an output.", 13 S1B "Source Terminal 1B. Can be an input or an output.", 14 VDD (power) "Most Positive Power Supply Potential.", 15 GND (power) "Ground (0 V) Reference.", 16 A1 (in) "Logic Control Input."

## ADG409BRZ-REEL
designator U?
LC2MOS 4-Channel High Performance Analog Multiplexer, 40 Ohm / 90 Ohm Ron, 16-pin SOIC (R-16), Reel; Manufacturer: Analog Devices; PartNumber: ADG409BRZ-REEL; Max Analog Signal Range: Vss to Vdd; Ron (ohms): 40; t transition (s): 120n; DatasheetVersion: Rev. C; PackageVersion: 060606-A, 06/2006; PackageReference: R-16; PackageDescription: 16-Pin Standard Small Outline Package, Body 9.9 x 3.9 mm, Pitch 1.27 mm; Supplier 1: Digi-Key; Supplier Part Number 1: ADG409BRZ-REEL-ND; Supplier 2: Newark; Supplier Part Number 2: 59K1241; Supplier 3: Mouser; Supplier Part Number 3: 584-ADG409BRZ-R; Packing: Reel; Mounting Technology: Surface Mount; Code_JEDEC: MS-012-AC; ComponentLink1Description: Manufacturer URL; ComponentLink1URL: http://www.analog.com/en/index.html; ComponentLink2Description: Datasheet; ComponentLink2URL: http://www.analog.com/static/imported-files/data_sheets/ADG408_409.pdf; ComponentLink3Description: Package Specification; ComponentLink3URL: http://www.analog.com/static/imported-files/packages/PKG_PDF/SOIC_Narrow%20(R)/R_16.pdf
footprint ADI-R-16_N (SOIC, 16-Leads, Body 9.9x3.9mm, Pitch 1.27mm, IPC Medium Density)
footprint ADI-R-16_L (SOIC, 16-Leads, Body 9.9x3.9mm, Pitch 1.27mm, IPC High Density)
footprint ADI-R-16_M (SOIC, 16-Leads, Body 9.9x3.9mm, Pitch 1.27mm, IPC Low Density)
pins: 1 A0 (in) "Logic Control Input.", 2 EN (in) "Active High Digital Input. When low, the device is disabled and all switches are off. When high, Ax logic inputs determine on switches.", 3 VSS (power) "Most Negative Power Supply Potential in Dual Supplies. In single-supply applications, it can be connected to ground.", 4 S1A "Source Terminal 1A. Can be an input or an output.", 5 S2A "Source Terminal 2A. Can be an input or an output.", 6 S3A "Source Terminal 3A. Can be an input or an output.", 7 S4A "Source Terminal 4A. Can be an input or an output.", 8 DA "Drain Terminal A. Can be an input or an output.", 9 DB "Drain Terminal B. Can be an input or an output.", 10 S4B "Source Terminal 4B. Can be an input or an output.", 11 S3B "Source Terminal 3B. Can be an input or an output.", 12 S2B "Source Terminal 2B. Can be an input or an output.", 13 S1B "Source Terminal 1B. Can be an input or an output.", 14 VDD (power) "Most Positive Power Supply Potential.", 15 GND (power) "Ground (0 V) Reference.", 16 A1 (in) "Logic Control Input."

## ADG409BRZ-REEL7
designator U?
LC2MOS 4-Channel High Performance Analog Multiplexer, 40 Ohm / 90 Ohm Ron, 16-pin SOIC (R-16), Reel; Manufacturer: Analog Devices; PartNumber: ADG409BRZ-REEL7; Max Analog Signal Range: Vss to Vdd; Ron (ohms): 40; t transition (s): 120n; DatasheetVersion: Rev. C; PackageVersion: 060606-A, 06/2006; PackageReference: R-16; PackageDescription: 16-Pin Standard Small Outline Package, Body 9.9 x 3.9 mm, Pitch 1.27 mm; Supplier 1: Digi-Key; Supplier Part Number 1: ADG409BRZ-REEL7-ND; Supplier 2: Newark; Supplier Part Number 2: 59K1242; Supplier 3: Mouser; Supplier Part Number 3: 584-ADG409BRZ-R7; Packing: Reel; Mounting Technology: Surface Mount; Code_JEDEC: MS-012-AC; ComponentLink1Description: Manufacturer URL; ComponentLink1URL: http://www.analog.com/en/index.html; ComponentLink2Description: Datasheet; ComponentLink2URL: http://www.analog.com/static/imported-files/data_sheets/ADG408_409.pdf; ComponentLink3Description: Package Specification; ComponentLink3URL: http://www.analog.com/static/imported-files/packages/PKG_PDF/SOIC_Narrow%20(R)/R_16.pdf
footprint ADI-R-16_N (SOIC, 16-Leads, Body 9.9x3.9mm, Pitch 1.27mm, IPC Medium Density)
footprint ADI-R-16_L (SOIC, 16-Leads, Body 9.9x3.9mm, Pitch 1.27mm, IPC High Density)
footprint ADI-R-16_M (SOIC, 16-Leads, Body 9.9x3.9mm, Pitch 1.27mm, IPC Low Density)
pins: 1 A0 (in) "Logic Control Input.", 2 EN (in) "Active High Digital Input. When low, the device is disabled and all switches are off. When high, Ax logic inputs determine on switches.", 3 VSS (power) "Most Negative Power Supply Potential in Dual Supplies. In single-supply applications, it can be connected to ground.", 4 S1A "Source Terminal 1A. Can be an input or an output.", 5 S2A "Source Terminal 2A. Can be an input or an output.", 6 S3A "Source Terminal 3A. Can be an input or an output.", 7 S4A "Source Terminal 4A. Can be an input or an output.", 8 DA "Drain Terminal A. Can be an input or an output.", 9 DB "Drain Terminal B. Can be an input or an output.", 10 S4B "Source Terminal 4B. Can be an input or an output.", 11 S3B "Source Terminal 3B. Can be an input or an output.", 12 S2B "Source Terminal 2B. Can be an input or an output.", 13 S1B "Source Terminal 1B. Can be an input or an output.", 14 VDD (power) "Most Positive Power Supply Potential.", 15 GND (power) "Ground (0 V) Reference.", 16 A1 (in) "Logic Control Input."